# Altium schematic symbol library MOSFET P-channel.SchLib: 2 symbols
Pins are listed as number, name and electrical type; pins without a type are passive.

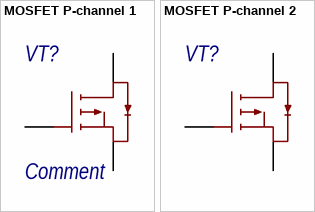
[diagram p0: symbols MOSFET P-channel 1 to MOSFET P-channel 2]

## MOSFET P-channel 1
designator VT?, comment Comment
P-канальный полевой транзистор
pins: 1, 2, 3

## MOSFET P-channel 2
designator VT?
P-канальный полевой транзистор
pins: 1, 2, 3